# Altium schematic symbol library GP1247AI_1.SCHLIB: 34 symbols
Pins are listed as number, name and electrical type; pins without a type are passive.

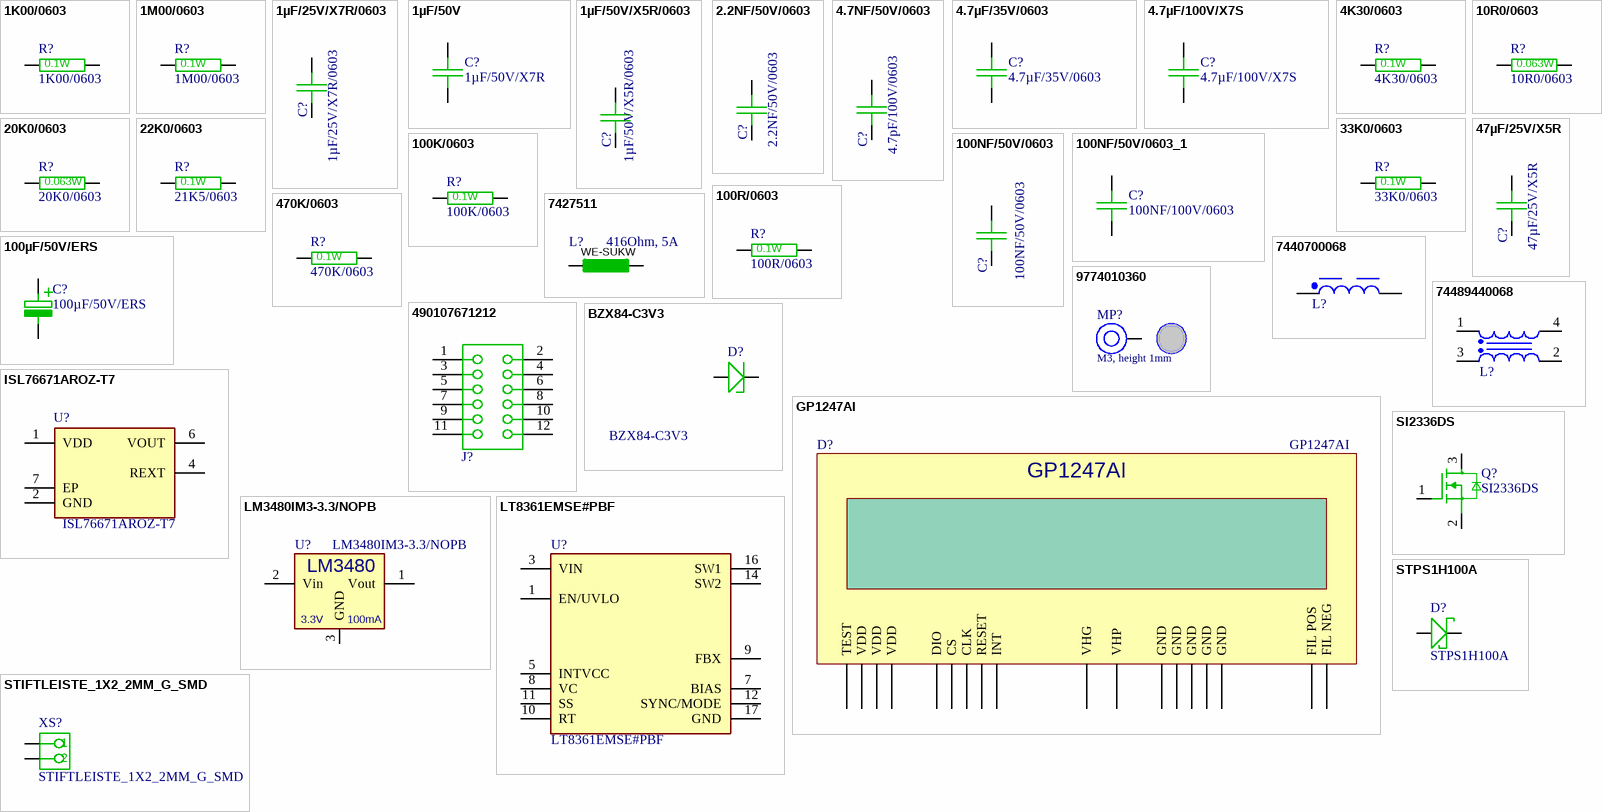
[diagram p0: symbols 1K00/0603 to STPS1H100A]

## 1K00/0603
designator R?
Resistor, 1k00, 0,1W, 1%, TK50, Metallschicht, SMD, 0603; Text Field1: 67271; Text Field7: 0603, 0,1 W, 1,0 %, TK50
footprint 0603__R
footprint 0603__W
pins: 1, 2
text: 0.1W

## 1M00/0603
designator R?
Resistor, 1M00, 0,1 W, 1,0 %, TK50, Metallschicht, SMD, 0603; Text Field1: 69900; Text Field3: 0603; Text Field5: 0.1W; Text Field6: 1%, TK100; Text Field7: 0603, 0,1 W, 1,0 %, TK50; Text Field8: 4; Text Field2: SMD; Text Field4: 1M00
footprint 0603__R
footprint 0603__W
pins: 1, 2

## 1µF/25V/X7R/0603
designator C?
Capacitor, 1µF, 25V, X7R, 10%, Ceramic, SMD, 0603; Manufacturer: Taiyo Yuden; Manufacturer Part Number: TMK107B7105KA-T; Text Field1: 138672; Text Field7: 0603, 25V, ±10%, X7R; Catalog Drawings: xMK Series_0603_0.8; Online Catalog: M Series; Other Names: 587-2984-6; Supplier 1: Digikey; Supplier Part Number 1: 587-2984-2-ND; Stock: 1604000; Pricing 1: 4000=0.0121, 8000=0.011, 12000=0.0105, 28000=0.01, 100000=0.0073 (USD); Standard Package: 1; Category: Capacitors; Family: Ceramic Capacitors; Series: M; Packaging: Digi-Reel®; Capacitance: 1µF; Tolerance: ±10%; Voltage - Rated: 25V; Temperature Coefficient: X7R; Mounting Type: Surface Mount, MLCC; Operating Temperature: -55°C ~ 125°C; Applications: General Purpose; Ratings: -; Package / Case: 0603 (1608 Metric); Size / Dimension: 0.063" L x 0.031" W (1.60mm x 0.80mm); Height - Seated (Max): -; Thickness (Max): 0.035" (0.90mm); Lead Spacing: -; Features: -; Lead Style: -; ComponentLink1URL: https://datasheet.ciiva.com/15922/374tmk107b7105ka-t-15922376.pdf; ComponentLink1Description: https://datasheet.ciiva.com/15922/374tmk107b7105ka-t-15922376.pdf; ComponentLink2URL: https://datasheet.ciiva.com/30163/854tmk107b7105ka-t-30163691.pdf; ComponentLink2Description: https://datasheet.ciiva.com/30163/854tmk107b7105ka-t-30163691.pdf; ComponentLink3URL: https://datasheet.ciiva.com/2990/tmk107b7105ka-t-ss-2990064.pdf; ComponentLink3Description: https://datasheet.ciiva.com/2990/tmk107b7105ka-t-ss-2990064.pdf; ComponentLink4URL: https://datasheet.ciiva.com/133/tmk107b7105ka-t-ss-133732.pdf; ComponentLink4Description: https://datasheet.ciiva.com/133/tmk107b7105ka-t-ss-133732.pdf
footprint 0603__R
footprint 0603__W
pins: 1, 2

## 1µF/50V
designator C?, comment 1µF/50V/X7R
Capacitor, 1µF/50V, 10%, Ceramic X7R, SMD, 1206; Text Field1: 80129; Text Field3: 1206; Text Field4: 1µF; Text Field5: 50V; Text Field7: 1206, 50V, ±10%, X7R; Text Field8: 10; Text Field2: SMD; Text Field6: 10%
footprint 1206__R
footprint 1206__W
pins: 1, 2

## 1µF/50V/X5R/0603
designator C?
Capacitor, 1µF, 50V, X5R, 10%, Ceramic, SMD, 0603; Text Field1: 163284; Text Field3: 0603; Text Field7: 0603, 50V, ±10%, X5R; Text Field8: 4; Text Field2: SMD; Text Field4: 1µF; Text Field5: 50V; Text Field6: X5R
footprint 0603__R
footprint 0603__W
pins: 1, 2

## 2.2NF/50V/0603
designator C?
Capacitor, 2.2nF, 50V, 10%, Ceramic, SMD, 0603; Manufacturer: KEMET; Manufacturer Part Number: C0603C222K5RAC   TU; Text Field1: 102033; Text Field7: 0603, 50V, ±10%, X5R; Supplier 1: Farnell; RoHS: YES; Stock 1: 3711; Pricing 1: 1=0,009, 10=0,009, 100=0,008, 500=0,006, 1000=0,005, 2500=0,005 (EUR); ComponentLink1URL: http://www.kemet.com/kemet/web/homepage/kechome.nsf/vapubfiles/KEM_C1002_X7R_SMD.pdf/$file/KEM_C1002_X7R_SMD.pdf; ComponentLink1Description: http://www.kemet.com/kemet/web/homepage/kechome.nsf/vapubfiles/KEM_C1002_X7R_SMD.pdf/$file/KEM_C1002_X7R_SMD.pdf; ComponentLink2URL: http://www.farnell.com/cad/1455899.zip; ComponentLink2Description: http://www.farnell.com/cad/1455899.zip; Supplier Part Number 1: 1167798
footprint 0603__R
footprint 0603__W
pins: 1, 2

## 4.7NF/50V/0603
designator C?, comment 4.7pF/100V/0603
Capacitor, 4.7pF, 100V, 10%, Ceramic, SMD, 0603; Text Field1: 87196; Text Field3: 0603; Text Field4: 4.7nF; Text Field5: 50V; Text Field7: 0603,50V, ±10%, X7R; Text Field8: 4; Text Field2: SMD; Text Field6: 10%
footprint 0603__R
footprint 0603__W
pins: 1, 2

## 4.7µF/35V/0603
designator C?
Capacitor, 4.7µF, 35V, 10%, Ceramic X5R, SMD, 0603, Low ESR; Manufacturer: TDK; Manufacturer Part Number: C1608X5R1V475K080AC; Text Field1: 160313; Text Field7: TDK: C1608X5R1V475K080AC; Capacitance: 4.7uF; Supplier 1: Digi-Key; Supplier Part Number 1: 445-9064-1-ND; Stock: 37688; Mount: Surface Mount; Case/Package: 0603; Case Code (Metric): 1608; Case Code (Imperial): 0603; Weight: 7.1E-05oz; Dielectric Material: Ceramic; Min Operating Temperature: -55°C; Max Operating Temperature: 85°C; Voltage Rating: 35V; Tolerance: 10%; Packaging: Tape and Reel; Termination: SMD/SMT; Series: C; Package Quantity: 1; Voltage Rating (DC): 35V; Dielectric: X5R; Resistor Type: Ceramic; Length: 0.063inch; Width: 0.031inch; Height: 0.8mm; Thickness: 0.039inch; Depth: 0.8mm; REACH SVHC: No SVHC; Lead Free: Lead Free; RoHS Compliant: Yes; ComponentLink1URL: http://www.mouser.com/ds/2/400/lcc_commercial_general_en-837201.pdf?src-supplier=Mouser; ComponentLink1Description: http://www.mouser.com/ds/2/400/lcc_commercial_general_en-837201.pdf?src-supplier=Mouser
footprint 0603__R
footprint 0603__W
pins: 1, 2

## 4.7µF/100V/X7S
designator C?
Capacitor, 4.7µF/100V, 10%, Ceramic X7S, SMD, 1206; Manufacturer: Murata; Manufacturer Part Number: GRM31CC72A475KE11L; Text Field1: 160347; Text Field7: Murata: GRM31CC72A475KE11L; Supplier 1: Digi-Key; Supplier Part Number 1: 490-18620-2-ND; Stock: 0; Pricing 1: 2000=0.29325 (USD); RoHS Compliant: Yes; ComponentLink1URL: https://search.murata.co.jp/Ceramy/image/img/A01X/G101/ENG/GRM31CC72A475KE11-01A.pdf?src-supplier=Digi-Key; ComponentLink1Description: https://search.murata.co.jp/Ceramy/image/img/A01X/G101/ENG/GRM31CC72A475KE11-01A.pdf?src-supplier=Digi-Key
footprint 1206__R
footprint 1206__W
pins: 1, 2

## 4K30/0603
designator R?
Resistor, 4K30, 0.1W, 1%, TK50, Metallschicht, SMD, 0603; Text Field1: 69416; Text Field7: 0603, 0,1 W, 1,0 %, TK50
footprint 0603__R
footprint 0603__W
pins: 1, 2
text: 0.1W

## 10R0/0603
designator R?
Resistor, 10R0, 0.063W, 1%, TK200, Metallschicht, SMD, 0603; Manufacturer: VISHAY; Manufacturer Part Number: MCT 0603-50 1% P5 10R0; Text Field1: 70916; Text Field7: 0603, 0,063W, 1,0 %, TK200; Product Range: VISHAY - MCT Series; Resistance: 10; Power Rating: 100; Resistor Case Style: 0603 [1608 Metric]; Resistor Element Material: Thin Film; Supplier 1: Newark; RoHS: YESX; Stock 1: 4700; Pricing 1: 50=0,063, 250=0,048, 500=0,042, 1000=0,038, 5000=0,035 (USD); Resistance Tolerance: ± 1%; ComponentLink1URL: http://www.farnell.com/datasheets/1718110.pdf; ComponentLink1Description: http://www.farnell.com/datasheets/1718110.pdf; Supplier Part Number 1: 06X6013
footprint 0603__R
footprint 0603__W
pins: 1, 2
text: 0.063W

## 20K0/0603
designator R?
Resistor, 20K0, 0.063W, 1%, TK100, Metallschicht, SMD, 0603; Text Field1: 82523; Text Field3: 0603; Text Field7: 0603, 0,1 W, 1,0 %, TK100; Text Field8: 4; Text Field2: SMD; Text Field4: 20K0; Text Field5: 0.063W; Text Field6: 1%, TK100
footprint 0603__R
footprint 0603__W
pins: 1, 2

## 22K0/0603
designator R?, comment 21K5/0603
Resistor, 21K5, 0.1W, 1%, TK50, Metallschicht, SMD, 0603; Text Field1: 73115; Text Field3: 0603; Text Field4: 22K0; Text Field7: 0603, 0,1 W, 1,0 %, TK50; Text Field8: 4; Text Field2: SMD; Text Field5: 0.1W; Text Field6: 1%, TK50
footprint 0603__R
footprint 0603__W
pins: 1, 2

## 33K0/0603
designator R?
Resistor, 33K, 0,1 W, 1,0 %, TK50, Metallschicht, SMD, 0603; Text Field1: 86418; Text Field3: 0603; Text Field5: 0.1W; Text Field6: TK100; Text Field7: 0603, 0,1 W, 1,0 %, TK50; Text Field8: 4; Text Field2: SMD; Text Field4: 33K
footprint 0603__R
footprint 0603__W
pins: 1, 2

## 47µF/25V/X5R
designator C?
Capacitor, 47µF/25V, 20%, Ceramic X5R, SMD, 1206; Manufacturer: TDK; Manufacturer Part Number: C3216X5R1E476M160AC; Text Field1: 153145; Text Field7: TDK: C3216X5R1E476M160AC; Capacitance: 47uF; Voltage Rating: 25V; Supplier 1: Digi-Key; Supplier Part Number 1: 445-8047-2-ND; Stock: 216000; Pricing 1: 2000=0.385, 4000=0.37125, 10000=0.3575, 14000=0.35063 (USD); Mount: Surface Mount; Case/Package: 1206; Weight: 0.000571oz; Case Code (Metric): 3216; Case Code (Imperial): 1206; Dielectric Material: Ceramic; Min Operating Temperature: -55°C; Max Operating Temperature: 85°C; Tolerance: 20%; Packaging: Tape and Reel; Voltage Rating (DC): 25V; Termination: SMD/SMT; Package Quantity: 1; Dielectric: X5R; Composition: Ceramic; Voltage: 25V; Length: 3.2mm; Height: 1.6mm; Width: 0.063inch; Depth: 1.6mm; Thickness: 1.6mm; Lead Free: Lead Free; REACH SVHC: No SVHC; ComponentLink1URL: https://product.tdk.com/info/en/documents/chara_sheet/C3216X5R1E476M160AC.pdf?src-supplier=Digi-Key; ComponentLink1Description: https://product.tdk.com/info/en/documents/chara_sheet/C3216X5R1E476M160AC.pdf?src-supplier=Digi-Key; ComponentLink2URL: https://product.tdk.com/info/en/catalog/datasheets/mlcc_commercial_general_en.pdf?src-supplier=Digi-Key; ComponentLink2Description: https://product.tdk.com/info/en/catalog/datasheets/mlcc_commercial_general_en.pdf?src-supplier=Digi-Key; ComponentLink3URL: http://www.tdk.com/pdf/general_B11.pdf?src-supplier=Future+Electronics; ComponentLink3Description: http://www.tdk.com/pdf/general_B11.pdf?src-supplier=Future+Electronics
footprint 1206__R
footprint 1206__W
pins: 1, 2

## 100K/0603
designator R?
Resistor, 100K, 0.1W, 1%, TK50, Metallschicht, SMD, 0603; Text Field1: 70755; Text Field3: 0603; Text Field7: 0603, 0,1 W, 1,0 %, TK50; Text Field8: 4; Text Field2: SMD; Text Field4: 100K; Text Field5: 0.1W; Text Field6: 1%, TK50
footprint 0603__R
footprint 0603__W
pins: 1, 2

## 100NF/50V/0603
designator C?
Capacitor, 100nF, 50V, 10%, Ceramic XR7, SMD, 0603; Manufacturer: KEMET; Manufacturer Part Number: C0603X104K5RACTU; Text Field1: 113024; Text Field7: 0603, 50V, ±10%, X7R; Kapazitätswert: 0.1; Dielektrische Charakteristik: X7R; Nennspannung: 50; Kondensatorgehäusestil: 0603 [1608 Metric]; Betriebstemperaturbereich: -55°C bis +125; SVHC: No SVHC (18-Jun-2012); Anschlusstyp: Surface Mount (SMD, SMT); Breite/Weite: 0.8; Gehäusetyp: 0603; Länge/Höhe, Außen-: 1.6; Min Betriebstemperatur: -55; Pin, Anzahl der: 2; Serie: FT; Temperatur, Betriebs- max.: 125; Supplier 1: Farnell; RoHS: YES; Stock 1: 97613; Pricing 1: 10=0,084, 100=0,042, 500=0,029, 1000=0,021, 4000=0,016 (EUR); Kapazitätstoleranz: ± 10%; Capacitor Terminals: SMD; Tiefe, Außen: 0.8; Toleranz +: 10%; Toleranz -: 10%; VDC Nennspannung: 50; ComponentLink1URL: http://www.farnell.com/datasheets/75233.pdf; ComponentLink1Description: http://www.farnell.com/datasheets/75233.pdf; ComponentLink2URL: http://www.farnell.com/cad/1558668.zip; ComponentLink2Description: http://www.farnell.com/cad/1558668.zip; Supplier Part Number 1: 1414028
footprint 0603__R
footprint 0603__W
pins: 1, 2

## 100NF/50V/0603_1
designator C?, comment 100NF/100V/0603
Capacitor, 100nF, 100V, 10%, Ceramic XR7, SMD, 0603; Manufacturer: KEMET; Manufacturer Part Number: C0603X104K5RACTU; Text Field1: 113024; Text Field7: 0603, 50V, ±10%, X7R; Kapazitätswert: 0.1; Dielektrische Charakteristik: X7R; Nennspannung: 50; Kondensatorgehäusestil: 0603 [1608 Metric]; Betriebstemperaturbereich: -55°C bis +125; SVHC: No SVHC (18-Jun-2012); Anschlusstyp: Surface Mount (SMD, SMT); Breite/Weite: 0.8; Gehäusetyp: 0603; Länge/Höhe, Außen-: 1.6; Min Betriebstemperatur: -55; Pin, Anzahl der: 2; Serie: FT; Temperatur, Betriebs- max.: 125; Supplier 1: Farnell; RoHS: YES; Stock 1: 97613; Pricing 1: 10=0,084, 100=0,042, 500=0,029, 1000=0,021, 4000=0,016 (EUR); Kapazitätstoleranz: ± 10%; Capacitor Terminals: SMD; Tiefe, Außen: 0.8; Toleranz +: 10%; Toleranz -: 10%; VDC Nennspannung: 50; ComponentLink1URL: http://www.farnell.com/datasheets/75233.pdf; ComponentLink1Description: http://www.farnell.com/datasheets/75233.pdf; ComponentLink2URL: http://www.farnell.com/cad/1558668.zip; ComponentLink2Description: http://www.farnell.com/cad/1558668.zip; Supplier Part Number 1: 1414028
footprint 0603__R
footprint 0603__W
pins: 1, 2

## 100R/0603
designator R?
Resistor, 100R, 0.1W, 1%, TK50, Metallschicht, SMD, 0603; Text Field1: 67270; Text Field7: 0603, 0,1 W, 1,0 %, TK50
footprint 0603__R
footprint 0603__W
pins: 1, 2
text: 0.1W

## 100µF/50V/ERS
designator C?
Capacitor, 100µF, Low ESR, 105 °C, 50V, 20%, Al-Elektrolyt, SMD, Größe ERS8x8; Text Field1: 80894; Text Field4: 100µF/ERS Low ESR; Text Field2: SMD; Text Field3: Größe ERS8x8; Text Field5: 50V; Text Field6: 20%; Text Field7: Al-Elektrolyt
footprint AL-ERS8x8__R
footprint AL-ERS8x8__R
pins: 1, 2
text: +

## 470K/0603
designator R?
Resistor, 470K, 0.1W, 1%, TK50, Metallschicht, SMD, 0603; Text Field1: 114671; Text Field3: 0603; Text Field7: 0603, 0,1 W, 1,0 %, TK50; Text Field8: 4; Text Field2: SMD; Text Field4: 470K; Text Field5: 0.1W; Text Field6: 1%, TK50
footprint 0603__R
footprint 0603__W
pins: 1, 2

## 7427511
designator L?, comment 416Ohm, 5A
WE-SUKW SMT EMI Suppression 5-Hole Ferrite Bead, , 416Ohm, 5A; Manufacturer Part Number: 7427511; Manufacturer: Wurth Elektronik; Impedance max.: 440Ohm; Impedance @25MHz: 272Ohm; DC Resistance max.: 11mOhm; Impedance max. Test Condition: 100MHz; Text Field1: 156774; Text Field7: Würth: 7427511; ComponentLink1Description: Manufacturer; ComponentLink1URL: http://www.we-online.de; ComponentLink2Description: Datasheet; ComponentLink2URL: https://www.we-online.com/catalog/datasheet/7427511.pdf; Mounting Technology: SMT; Height: 4.6mm; Length: 8mm; Impedance @100MHz: 416Ohm; Packaging: Tape and Reel; Operating Temperature: -40 to +125degC; Rated Current: 5A; Published Date: April 2020; Width: 5mm
footprint 7427511_WE-SUKW__R (SMD EMI Suppression Ferrite Bead, body 5.5x5mm)
pins: 1, 2
text: WE-SUKW

## 7440700068
designator L?, comment 6.8µH, 2.4A  (value not drawn)
WE-TPC SMT Tiny Power Inductor, size 8020, 6.8µH, 2.4A, 68mΩ; Manufacturer Part Number: 7440700068; Manufacturer: Wurth Elektronik; Case/Size Code: 8020; DC Resistance: 56mΩ; Saturation Current: 1.8A; Self Resonant Frequency: 55MHz; Category: Shielded Power Inductors; Match Code: WE-TPC; ComponentLink1Description: Website Link; ComponentLink1URL: https://www.we-online.com/redexpert/article/7440700068?ad; ComponentLink2Description: Datasheet Link; ComponentLink2URL: https://www.we-online.com/redexpert/spec/7440700068?ad; Mount: Surface Mount; Operating Temperature Max: 125°C; Operating Temperature Min: -40°C; Packaging: Tape and Reel; Length: 8mm; Width: 8mm; Height: 1.8mm; DC Resistance Max: 68mΩ; Inductance: 6.8µH; Rated Current: 2.4A
footprint WE-TPC_8020
simulation model 8020_7440700068_6.8u
pins: 1, 2

## 9774010360
designator MP?, comment M3, height 1mm
SMT Steel Spacer with internal Thread M3 WA-SMSI, height 1mm; Part Number: 9774010360; Manufacturer: Wurth Electronics; Tightening Torque: 0.5 Nm; Solder Cream Thickness: 150 um; Surface: Tin; Text Field1: 148883; Text Field7: Würth: 9774010360; ComponentLink1Description: Manufacturer; ComponentLink1URL: http://www.we-online.de; ComponentLink2Description: Datasheet; ComponentLink2URL: https://katalog.we-online.de/em/datasheet/9774010360.pdf; Published Date: November 2018; Publisher: Wurth Elektronik; Operating Temperature: -55 to 150 degC; Packaging: Bulk; Material: Steel; Mounting Technology: SMT; Thread: M3; Manufacturer Part Number: 9774010360; Stock: 200; Supplier 1: Mouser; Supplier Part Number 1: 710-9774010360; Pricing 1: 1=2.54, 10=2.41, 50=2.28, 100=2.11, 1000=2.11, 10000=2.11 (USD)
footprint 9774010360_R (M3 Thread Internal, Length 1mm)
pins: 1

## 74489440068
designator L?, comment 6.8µH, 1.45A  (value not drawn)
WE-TDC SMT Shielded Coupled Inductor, size 8038, 6.8µH, 1.45A, 100mΩ; Manufacturer Part Number: 74489440068; Manufacturer: Wurth Elektronik; Case/Size Code: 8038; DC Resistance 1: 88mΩ; Rated Voltage: 80V; Saturation Current: 3.2A; Self Resonant Frequency: 25MHz; Category: Coupled Power Inductors; Match Code: WE-TDC; ComponentLink1Description: Website Link; ComponentLink1URL: https://www.we-online.com/redexpert/article/74489440068?ad; ComponentLink2Description: Datasheet Link; ComponentLink2URL: https://www.we-online.com/redexpert/spec/74489440068?ad; Mount: Surface Mount; Operating Temperature Max: 125°C; Operating Temperature Min: -40°C; Packaging: Tape and Reel; Length: 8mm; Width: 8mm; Height: 3.8mm; DC Resistance 2: 88mΩ; DC Resistance Max 1: 100mΩ; DC Resistance Max 2: 100mΩ; Inductance 1: 6.8µH; Inductance 2: 6.8µH; Rated Current 1: 1.45A; Rated Current 2: 1.45A
footprint WE-TDC_8038
pins: 1, 2, 3, 4

## 490107671212
designator J?  (value not drawn)
WR-WST REDFIT IDC SKEDD, pitch 2.54mm, 12p; Manufacturer: Wurth Elektronik; Contact Resistance: 10mΩ; Gender: Transition; Rated Current: 1A; Working Voltage: 100VAC; ComponentLink1Description: Website Link; ComponentLink1URL: https://www.we-online.com/redexpert/article/490107671212?ad; ComponentLink2Description: Datasheet Link; ComponentLink2URL: https://www.we-online.com/redexpert/spec/490107671212?ad; Manufacturer Part Number: 490107671212; Category: Wire-to-Board Connectors; Match Code: WR-WST; Mount: Press Fit; Operating Temperature Max: 105°C; Operating Temperature Min: -25°C; Packaging: Tube; Number of Pins: 12; Pitch: 2.54mm
footprint 490107671212_Permanent Application
footprint 490107671212_Debugging Application
pins: 1, 2, 3, 4, 5, 6, 7, 8, 9, 10, 11, 12

## BZX84-C3V3
designator D?
DIODE ZENER 3.3V 250MW SOT23; Manufacturer: Nexperia USA Inc.; Manufacturer Part Number: BZX84-C3V3,215; Tolerance: ±5%; Current - Reverse Leakage @ Vr: 5µA @ 1V; Voltage - Forward (Vf) (Max) @ If: 900mV @ 10mA; Text Field1: 139997; Text Field7: Nexperia: BZX84-C3V3,215; Supplier 1: Digi-Key; RoHS: RoHS Compliant; Category: Discrete Semiconductor Products; Stock 1: 0; Pricing 1: 3000=0.02273, 6000=0.0205, 15000=0.01782, 30000=0.01604, 75000=0.01426, 150000=0.01185 (EUR); Packaging: Tape & Reel (TR); Part Status: Active; Power - Max: 250mW; Operating Temperature: -65°C ~ 150°C; Mounting Type: Surface Mount; Package / Case: TO-236-3, SC-59, SOT-23-3; Supplier Device Package: TO-236AB (SOT23); ComponentLink1URL: http://assets.nexperia.com/documents/data-sheet/BZX84_SER.pdf; ComponentLink1Description: http://assets.nexperia.com/documents/data-sheet/BZX84_SER.pdf; Supplier Part Number 1: 1727-2937-2-ND
footprint SOT-23-3__R
pins: 1, 3

## GP1247AI
designator D?
253*63 Pixels SPI VFD Matrix Display
footprint GP1247AI
pins: 1 FIL POS, 2 FIL POS, 3 FIL POS, 4 FIL POS, 5 GND, 6 VDD, 7 NC hidden, 8 NC hidden, 9 TEST, 10 RESET, 11 DIO, 12 CS, 13 CLK, 14 VDD, 15 INT, 16 NC hidden, 17 GND, 18 NC hidden, 19 GND, 20 NC hidden, 21 VHG, 22 NC hidden, 23 NC hidden, 24 NC hidden, 25 NC hidden, 26 NC hidden, 27 NC hidden, 28 NC hidden, 29 NC hidden, 30 NC hidden, 31 NC hidden, 32 NC hidden, 33 NC hidden, 34 NC hidden, 35 NC hidden, 36 NC hidden, 37 NC hidden, 38 NC hidden, 39 NC hidden, 40 NC hidden, 41 NC hidden, 42 NC hidden, 43 NC hidden, 44 NC hidden, 45 NC hidden, 46 NC hidden, 47 NC hidden, 48 NC hidden, 49 NC hidden, 50 NC hidden, 51 NC hidden, 52 NC hidden, 53 NC hidden, 54 NC hidden, 55 NC hidden, 56 NC hidden, 57 NC hidden, 58 VDD, 59 VHP, 60 GND, 61 GND, 62 FIL NEG, 63 FIL NEG, 64 FIL NEG, 65 FIL NEG

## ISL76671AROZ-T7
designator U?
Light to Analog Sensors (Voltage) Low Power, <100 Lux Optimized, Analog Output Ambient Light Sensor; Manufacturer_Name: Renesas Electronics; Geometry.Height: 0.8mm; Mouser Part Number: 968-ISL76671AROZ-T7; Mouser Price/Stock: https://www.mouser.co.uk/ProductDetail/Renesas-Intersil/ISL76671AROZ-T7?qs=9fLuogzTs8KH%2F0coQfRtPw%3D%3D; Manufacturer_Part_Number: ISL76671AROZ-T7; Datasheet Link: https://www.renesas.com/en-us/www/doc/datasheet/isl76671.pdf
footprint SON65P210X200X80-7N
pins: 1 VDD, 2 GND, 3 NC_1 hidden, 4 REXT, 5 NC_2 hidden, 6 VOUT, 7 EP

## LM3480IM3-3.3/NOPB
designator U?
LDO, SOT-23, 3V3 OUT 100mA, Vinmax 30V, SMD; Manufacturer: Texas Instruments; Text Field1: 131797; Text Field7: TI: LM3480IM3-3.3/NOPB; Regulator Topology: Positive Fixed; Voltage - Output: 3.3V; Voltage - Dropout (Typical): 0.9V @ 100mA; Number of Regulators: 1; Voltage - Input: Up to 30V; Supplier 1: Digi-Key; Supplier Part Number 1: LM3480IM3-3.3/NOPBTR-ND; Manufacturer Part Number: LM3480IM3-3.3/NOPB; RoHS: RoHS Compliant; Category: Integrated Circuits (ICs); Stock 1: 23000; Pricing 1: 1000=0.3183 (EUR); Packaging: Tape & Reel (TR); Part Status: Active; Current - Output: 100mA; Current - Limit (Min): -; Operating Temperature: -40°C ~ 125°C; Mounting Type: Surface Mount; Package / Case: TO-236-3, SC-59, SOT-23-3; Supplier Device Package: SOT-23-3; ComponentLink1URL: http://www.ti.com/lit/ds/symlink/lm3480.pdf; ComponentLink1Description: http://www.ti.com/lit/ds/symlink/lm3480.pdf
footprint SOT-23-3__R
footprint SOT-23-3_PW__R
pins: 1 Vout (power), 2 Vin, 3 GND (power)
text: LM3480; 3.3V        100mA

## LT8361EMSE#PBF
designator U?
Conv DC-DC 2.8V to 60V Step Up Single-Out 100V 2A Automotive 12-Pin MSOP EP Tube; Manufacturer_Name: Analog Devices; Geometry.Height: 1.1mm; Mouser Part Number: 584-LT8361EMSE#PBF; Mouser Price/Stock: https://www.mouser.co.uk/ProductDetail/Analog-Devices/LT8361EMSEPBF?qs=y6ZabgHbY%252ByVuSTCW6h07w%3D%3D; Manufacturer_Part_Number: LT8361EMSE#PBF; Datasheet Link: https://www.mouser.fi/datasheet/2/609/lt8361-1568840.pdf
footprint SOP50P490X110-17N
footprint MSOP-16/12__R
pins: 1 EN/UVLO, 3 VIN, 5 INTVCC, 6 NC hidden, 7 BIAS, 8 VC, 9 FBX, 10 RT, 11 SS, 12 SYNC/MODE, 14 SW2, 16 SW1, 17 GND

## SI2336DS
designator Q?
N-Channel 30V / 5.2A (D-S) MOSFET; Manufacturer: Vishay Siliconix; Manufacturer Part Number: SI2336DS-T1-GE3; Text Field7: Vishay: SI2336DS-T1-GE3; Text Field1: 154123; Rise Time: 10ns; Rds On Max: 42mR; Input Capacitance: 560pF; Nominal Vgs: 400mV; Gate to Source Voltage (Vgs): 8V; Max Power Dissipation: 1.8W; Turn-Off Delay Time: 20ns; Turn-On Delay Time: 6ns; Number of Elements: 1; Power Dissipation: 1.25W; Element Configuration: Single; Supplier 1: Digi-Key; Supplier Part Number 1: SI2336DS-T1-GE3DKR-ND; Stock: 23876; Pricing 1: 1=0.48, 10=0.413, 25=0.3852, 100=0.286, 250=0.27172, 500=0.2233, 1000=0.1815 (USD); Mount: Surface Mount; Case/Package: SOT-23; Number of Pins: 3; Weight: 0.050717oz; Min Operating Temperature: -55°C; Max Operating Temperature: 150°C; Packaging: Tape and Reel; Package Quantity: 1; Continuous Drain Current (ID): 5.2A; Drain to Source Voltage (Vdss): 30V; Drain to Source Resistance: 42mR; Fall Time: 10ns; Threshold Voltage: 400mV; Number of Channels: 1; REACH SVHC: No SVHC; Lead Free: Lead Free; ComponentLink1URL: http://www.vishay.com/docs/71978/si2336ds.pdf?src-supplier=Avnet; ComponentLink1Description: http://www.vishay.com/docs/71978/si2336ds.pdf?src-supplier=Avnet; ComponentLink2URL: http://www.mouser.com/ds/2/427/si2336ds-260499.pdf?src-supplier=Mouser; ComponentLink2Description: http://www.mouser.com/ds/2/427/si2336ds-260499.pdf?src-supplier=Mouser; ComponentLink3URL: http://www.farnell.com/datasheets/1915678.pdf?src-supplier=Element14; ComponentLink3Description: http://www.farnell.com/datasheets/1915678.pdf?src-supplier=Element14; ComponentLink4URL: http://www.vishay.com/docs/71978/si2336ds.pdf?src-supplier=Digi-Key; ComponentLink4Description: http://www.vishay.com/docs/71978/si2336ds.pdf?src-supplier=Digi-Key; ComponentLink5URL: http://www.farnell.com/datasheets/2050381.pdf?src-supplier=Element14; ComponentLink5Description: http://www.farnell.com/datasheets/2050381.pdf?src-supplier=Element14
footprint SOT-23-3__R
footprint SOT-23-3_PW__R
pins: 1 G, 2 S, 3 D

## STIFTLEISTE_1X2_2MM_G_SMD
designator XS?
Manufacturer: JST Sales America Inc; Manufacturer Part Number: B2B-PH-SM4-TB(LF)(SN); Text Field1: 121631; Text Field7: JST: B2B-PH-SM4-TB(LF)(SN); Connector Type: Header, Shrouded; Number of Positions: 2; Number of Positions Loaded: All; Pitch: 0.079" (2.00mm); Supplier 1: Digi-Key; RoHS: RoHS Compliant; Category: Connectors, Interconnects; Pricing 1: 1=0.41, 10=0.38, 50=0.3038, 100=0.291, 250=0.26576, 500=0.25308 (EUR); Packaging: Cut Tape (CT); Contact Type: Male Pin; Number of Rows: 1; Mounting Type: Surface Mount; Termination: Solder; Features: Solder Retention; Contact Finish: Tin; Color: Natural; ComponentLink1URL: http://www.jst-mfg.com/product/pdf/eng/ePH.pdf; ComponentLink1Description: http://www.jst-mfg.com/product/pdf/eng/ePH.pdf; Supplier Part Number 1: 455-1734-1-ND
footprint 1X2POL-2mm-G__R (Footprint not found)
pins: 1, 2

## STPS1H100A
designator D?
DIODE SCHOTTKY 100V 1A SMA; Manufacturer: STMicroelectronics; Voltage - Forward (Vf) (Max) @ If: 770mV @ 1A; Speed: Fast Recovery =< 500ns, > 200mA (Io); Current - Reverse Leakage @ Vr: 4µA @ 100V; Text Field1: 111565; Text Field7: STMicroelectronics: STPS1H100A; Supplier 1: Digi-Key; RoHS: RoHS Compliant; Category: Discrete Semiconductor Products; Stock 1: 111470; Pricing 1: 1=0.41, 10=0.345, 25=0.3024, 100=0.259, 250=0.2246, 500=0.19026, 1000=0.14667, 2500=0.1341 (EUR); Diode Type: Schottky; Voltage - DC Reverse (Vr) (Max): 100V; Current - Average Rectified (Io): 1A; Reverse Recovery Time (trr): -; Capacitance @ Vr, F: -; Mounting Type: Surface Mount; Package / Case: DO-214AC, SMA; Supplier Device Package: SMA; Packaging: Digi-Reel®; ComponentLink1URL: http://www.st.com/internet/com/TECHNICAL_RESOURCES/TECHNICAL_LITERATURE/DATASHEET/CD00001304.pdf; ComponentLink1Description: http://www.st.com/internet/com/TECHNICAL_RESOURCES/TECHNICAL_LITERATURE/DATASHEET/CD00001304.pdf; Supplier Part Number 1: 497-3209-6-ND; Manufacturer Part Number: STPS1H100A
footprint SMA__R
pins: 1, 2